# EAGLE library part ADAFRUIT-FXOS8700-FXAS21002 (library Adafruit IMUs - BNO055 and FX)
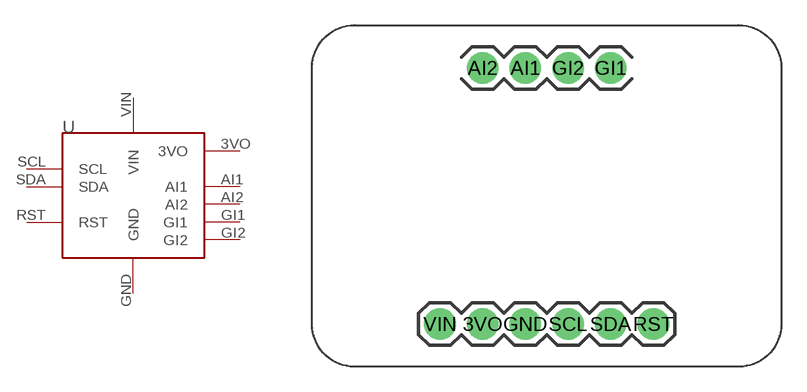
[diagram p1: symbol with the pads of ADAFRUIT-FXOS8700-FXAS21002; footprint ADAFRUIT-FXOS8700-FXAS21002]

Designator prefix -

## ADAFRUIT-FXOS8700-FXAS21002  [ADAFRUIT-FXOS8700-FXAS21002]
3VO  3VO  pwr
AI1  AI1  out
AI2  AI2  out
GI1  GI1  out
GI2  GI2  out
GND  GND  pwr
RST  RST  in
SCL  SCL
SDA  SDA
VIN  VIN  pwr

## Footprint ADAFRUIT-FXOS8700-FXAS21002 (pad centres in mm)
drill 1.016 pad 1.88: 3VO 10.16,2.54; AI1 12.7,17.78; AI2 10.16,17.78; GI1 17.78,17.78; GI2 15.24,17.78; GND 12.7,2.54; RST 20.32,2.54; SCL 15.24,2.54; SDA 17.78,2.54; VIN 7.62,2.54